# EAGLE library part TDA1562 (library Audio-Power-amlifier V.2.0)
70 W High Efficiency Power Amplifier with diagnostic facility
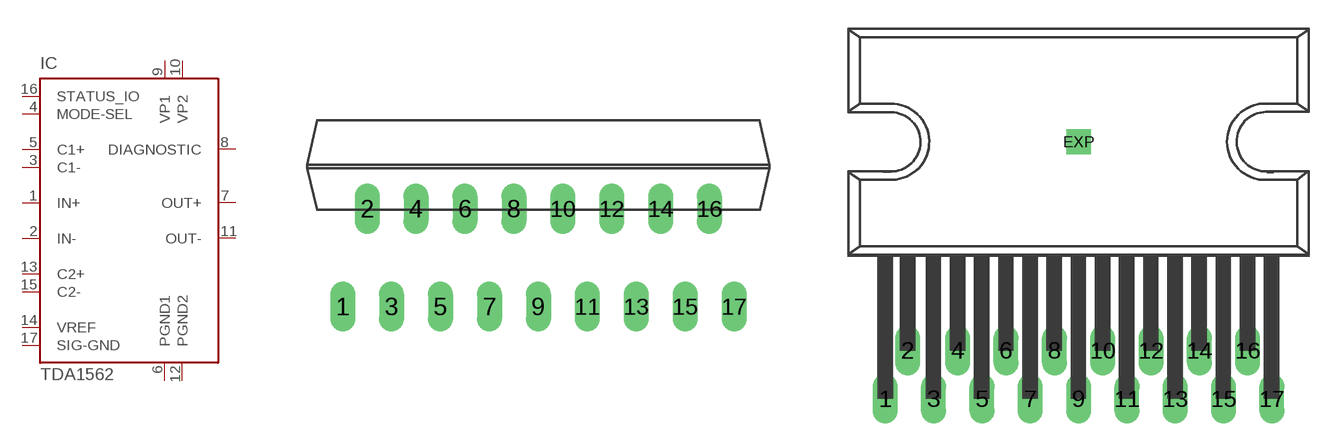
[diagram p11: symbol with the pads of SOT243-1; footprints SOT243-1, SOT577-2]

Designator prefix IC

## TDA1562TDA1562Q  [SOT243-1]
1  IN+  in
2  IN-  in
3  C1-  pas
4  MODE-SEL  in
5  C1+  pas
6  PGND1  pwr
7  OUT+  out
8  DIAGNOSTIC  out
9  VP1  pwr
10  VP2  pwr
11  OUT-  out
12  PGND2  pwr
13  C2+  pas
14  VREF  in
15  C2-  pas
16  STATUS_IO  in
17  SIG-GND  in

## TDA1562TDA1562ST  [SOT577-2]
Pads as for SOT243-1

## TDA1562TDA1562SD  [SOT668-2]
Pads as for SOT243-1

## Footprint SOT243-1 (pad centres in mm)
DBS17P: plastic DIL-bent-SIL power package; 17 leads (lead length 7.7 mm)
drill 0.8 long: 1 -10.16,-5.08; 2 -8.89,0; 3 -7.62,-5.08; 4 -6.35,0; 5 -5.08,-5.08; 6 -3.81,0; 7 -2.54,-5.08; 8 -1.27,0; 9 0,-5.08; 10 1.27,0; 11 2.54,-5.08; 12 3.81,0; 13 5.08,-5.08; 14 6.35,0; 15 7.62,-5.08; 16 8.89,0; 17 10.17,-5.08

## Footprint SOT577-2 (pad centres in mm)
drill 0.8 long: 1 -10.16,-13.5; 2 -8.98,-10.96; 3 -7.62,-13.5; 4 -6.35,-10.96; 5 -5.08,-13.5; 6 -3.81,-10.96; 7 -2.54,-13.5; 8 -1.27,-10.96; 9 0,-13.5; 10 1.27,-10.96; 11 2.54,-13.5; 12 3.81,-10.96; 13 5.08,-13.5; 14 6.35,-10.96; 15 7.62,-13.5; 16 8.89,-10.96; 17 10.16,-13.5
drill 0.8 square: EXP 0,0

## Footprint SOT668-2 (pad centres in mm)
RDBS17P: plastic rectangular-DIL-bent-SIL (reverse bent) power package; 17 leads (row spacing 2.54 mm)
drill 0.7 long: 1 -10.16,-5.08; 2 -8.89,-2.54; 3 -7.62,-5.08; 4 -6.35,-2.54; 5 -5.08,-5.08; 6 -3.81,-2.54; 7 -2.54,-5.08; 8 -1.27,-2.54; 9 0,-5.08; 10 1.27,-2.54; 11 2.54,-5.08; 12 3.81,-2.54; 13 5.08,-5.08; 14 6.35,-2.54; 15 7.62,-5.08; 16 8.89,-2.54; 17 10.16,-5.08
smd 10 x 6: EXP 0,8.42
hole 3.2 at -10,8.42
hole 3.2 at 10,8.42